# Altium schematic symbol library 2mm 10pin male header.Schlib: 1 symbol
Pins are listed as number, name and electrical type; pins without a type are passive.

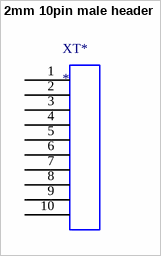
[diagram p0: symbol 2mm 10pin male header]

## 2mm 10pin male header
designator XT*
ComponentLink1Description: LCSC - CJT(Changjiang Connectors) A2005WV-10P; ComponentLink1URL: https://lcsc.com/product-detail/Pin-Header-Female-Header_CJT-Changjiang-Connectors-A2005WV-10P_C225262.html/?href=jlc-SMT; LCSC Part #: C225262; JLCPCB Part Type: Extended
footprint 2mm 10pin male header
pins: 1, 2, 3, 4, 5, 6, 7, 8, 9, 10